# Altium schematic symbol library WCAP-AT1H.SchLib: 95 symbols (part 2 of 2)
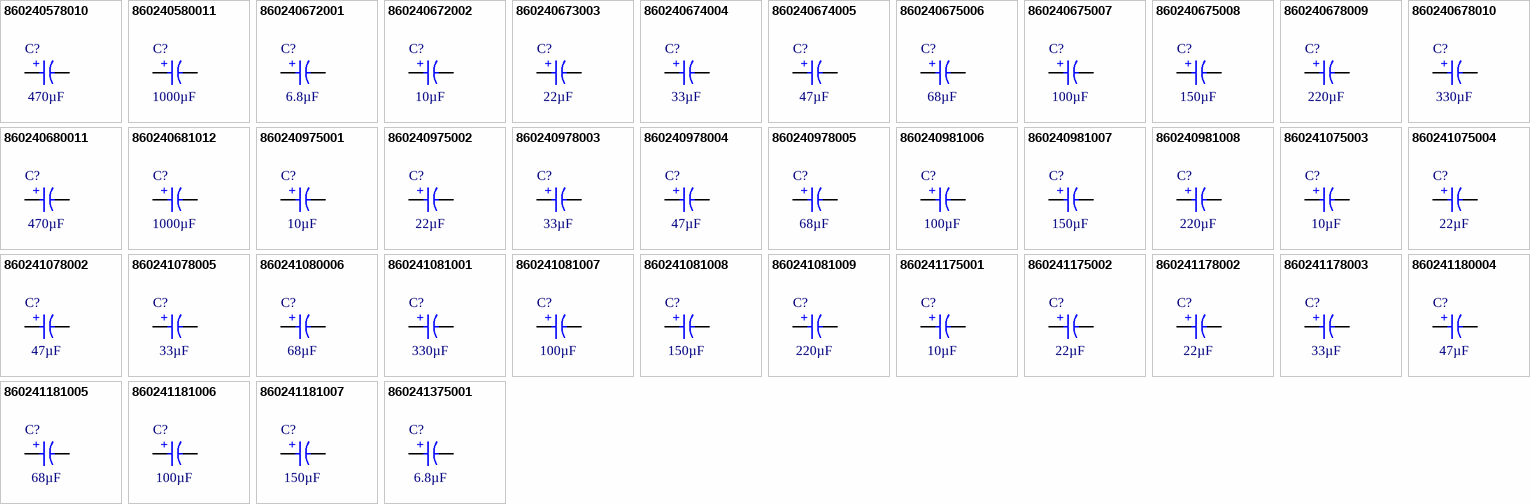
[diagram p3: symbols 860240578010 to 860241375001]

## 860240678010
designator C?, comment 330µF
WCAP-AT1H Aluminum Electrolytic Capacitor, Radial, D13 x H25mm, 330µF, 50V; Manufacturer Part Number: 860240678010; Manufacturer: Wurth Elektronik; Capacitance Tolerance: +/-20%; Dissipation Factor: 10%; Endurance: 10000h; Leakage Current: 165µA; Ripple Current: 1150mA; Technical Reference: ATDI250331M050DSPACK000; Category: Aluminum Electrolytic Capacitors; Match Code: WCAP-AT1H; ComponentLink1Description: Website Link; ComponentLink1URL: https://www.we-online.com/redexpert/article/860240678010?ad; ComponentLink2Description: Datasheet Link; ComponentLink2URL: https://www.we-online.com/redexpert/spec/860240678010?ad; Mount: Through Hole; Min Operating Temperature: -40°C; Max Operating Temperature: 105°C; Packaging: Ammo Pack; Case/Size Code: D13 x H25mm; Height: 25mm; Diameter: 13mm; Capacitance: 330µF; Rated Voltage (DC): 50V
footprint WCAP-AT1H_D13H25
simulation model 860240678010_330uF
pins: 1 P, 2 N
text: +

## 860240680011
designator C?, comment 470µF
WCAP-AT1H Aluminum Electrolytic Capacitor, Radial, D16 x H25mm, 470µF, 50V; Manufacturer Part Number: 860240680011; Manufacturer: Wurth Elektronik; Capacitance Tolerance: +/-20%; Dissipation Factor: 10%; Endurance: 10000h; Leakage Current: 235µA; Ripple Current: 1552mA; Technical Reference: ATDK250471M050DSPAEK000; Category: Aluminum Electrolytic Capacitors; Match Code: WCAP-AT1H; ComponentLink1Description: Website Link; ComponentLink1URL: https://www.we-online.com/redexpert/article/860240680011?ad; ComponentLink2Description: Datasheet Link; ComponentLink2URL: https://www.we-online.com/redexpert/spec/860240680011?ad; Mount: Through Hole; Min Operating Temperature: -40°C; Max Operating Temperature: 105°C; Packaging: Ammo Pack; Case/Size Code: D16 x H25mm; Height: 25mm; Diameter: 16mm; Capacitance: 470µF; Rated Voltage (DC): 50V
footprint WCAP-AT1H_D16H25
simulation model 860240680011_470uF
pins: 1 P, 2 N
text: +

## 860240681012
designator C?, comment 1000µF
WCAP-AT1H Aluminum Electrolytic Capacitor, Radial, D18 x H31.5mm, 1000µF, 50V; Manufacturer Part Number: 860240681012; Manufacturer: Wurth Elektronik; Capacitance Tolerance: +/-20%; Dissipation Factor: 10%; Endurance: 10000h; Leakage Current: 500µA; Ripple Current: 2093mA; Technical Reference: ATDL315102M050DSPAEK000; Category: Aluminum Electrolytic Capacitors; Match Code: WCAP-AT1H; ComponentLink1Description: Website Link; ComponentLink1URL: https://www.we-online.com/redexpert/article/860240681012?ad; ComponentLink2Description: Datasheet Link; ComponentLink2URL: https://www.we-online.com/redexpert/spec/860240681012?ad; Mount: Through Hole; Min Operating Temperature: -40°C; Max Operating Temperature: 105°C; Packaging: Ammo Pack; Case/Size Code: D18 x H31.5mm; Height: 31.5mm; Diameter: 18mm; Capacitance: 1000µF; Rated Voltage (DC): 50V
footprint WCAP-AT1H_D18H31.5
simulation model 860240681012_1mF
pins: 1 P, 2 N
text: +

## 860240975001
designator C?, comment 10µF
WCAP-AT1H Aluminum Electrolytic Capacitor, Radial, D10 x H16mm, 10µF, 160V; Manufacturer Part Number: 860240975001; Manufacturer: Wurth Elektronik; Capacitance Tolerance: +/-20%; Dissipation Factor: 15%; Endurance: 10000h; Leakage Current: 164µA; Ripple Current: 280mA; Technical Reference: ATDF160100M160DSPAAK000; Category: Aluminum Electrolytic Capacitors; Match Code: WCAP-AT1H; ComponentLink1Description: Website Link; ComponentLink1URL: https://www.we-online.com/redexpert/article/860240975001?ad; ComponentLink2Description: Datasheet Link; ComponentLink2URL: https://www.we-online.com/redexpert/spec/860240975001?ad; Mount: Through Hole; Min Operating Temperature: -40°C; Max Operating Temperature: 105°C; Packaging: Ammo Pack; Case/Size Code: D10 x H16mm; Height: 16mm; Diameter: 10mm; Capacitance: 10µF; Rated Voltage (DC): 160V
footprint WCAP-AT1H_D10H16
simulation model 860240975001_10uF
pins: 1 P, 2 N
text: +

## 860240975002
designator C?, comment 22µF
WCAP-AT1H Aluminum Electrolytic Capacitor, Radial, D10 x H20mm, 22µF, 160V; Manufacturer Part Number: 860240975002; Manufacturer: Wurth Elektronik; Capacitance Tolerance: +/-20%; Dissipation Factor: 15%; Endurance: 10000h; Leakage Current: 240.8µA; Ripple Current: 450mA; Technical Reference: ATDF200220M160DSPAAK000; Category: Aluminum Electrolytic Capacitors; Match Code: WCAP-AT1H; ComponentLink1Description: Website Link; ComponentLink1URL: https://www.we-online.com/redexpert/article/860240975002?ad; ComponentLink2Description: Datasheet Link; ComponentLink2URL: https://www.we-online.com/redexpert/spec/860240975002?ad; Mount: Through Hole; Min Operating Temperature: -40°C; Max Operating Temperature: 105°C; Packaging: Ammo Pack; Case/Size Code: D10 x H20mm; Height: 20mm; Diameter: 10mm; Capacitance: 22µF; Rated Voltage (DC): 160V
footprint WCAP-AT1H_D10H20
simulation model 860240975002_22uF
pins: 1 P, 2 N
text: +

## 860240978003
designator C?, comment 33µF
WCAP-AT1H Aluminum Electrolytic Capacitor, Radial, D13 x H20mm, 33µF, 160V; Manufacturer Part Number: 860240978003; Manufacturer: Wurth Elektronik; Capacitance Tolerance: +/-20%; Dissipation Factor: 15%; Endurance: 10000h; Leakage Current: 311.2µA; Ripple Current: 610mA; Technical Reference: ATDI200330M160DSPACK000; Category: Aluminum Electrolytic Capacitors; Match Code: WCAP-AT1H; ComponentLink1Description: Website Link; ComponentLink1URL: https://www.we-online.com/redexpert/article/860240978003?ad; ComponentLink2Description: Datasheet Link; ComponentLink2URL: https://www.we-online.com/redexpert/spec/860240978003?ad; Mount: Through Hole; Min Operating Temperature: -40°C; Max Operating Temperature: 105°C; Packaging: Ammo Pack; Case/Size Code: D13 x H20mm; Height: 20mm; Diameter: 13mm; Capacitance: 33µF; Rated Voltage (DC): 160V
footprint WCAP-AT1H_D13H20
simulation model 860240978003_33uF
pins: 1 P, 2 N
text: +

## 860240978004
designator C?, comment 47µF
WCAP-AT1H Aluminum Electrolytic Capacitor, Radial, D13 x H20mm, 47µF, 160V; Manufacturer Part Number: 860240978004; Manufacturer: Wurth Elektronik; Capacitance Tolerance: +/-20%; Dissipation Factor: 15%; Endurance: 10000h; Leakage Current: 400.8µA; Ripple Current: 680mA; Technical Reference: ATDI200470M160DSPACK000; Category: Aluminum Electrolytic Capacitors; Match Code: WCAP-AT1H; ComponentLink1Description: Website Link; ComponentLink1URL: https://www.we-online.com/redexpert/article/860240978004?ad; ComponentLink2Description: Datasheet Link; ComponentLink2URL: https://www.we-online.com/redexpert/spec/860240978004?ad; Mount: Through Hole; Min Operating Temperature: -40°C; Max Operating Temperature: 105°C; Packaging: Ammo Pack; Case/Size Code: D13 x H20mm; Height: 20mm; Diameter: 13mm; Capacitance: 47µF; Rated Voltage (DC): 160V
footprint WCAP-AT1H_D13H20
simulation model 860240978004_47uF
pins: 1 P, 2 N
text: +

## 860240978005
designator C?, comment 68µF
WCAP-AT1H Aluminum Electrolytic Capacitor, Radial, D13 x H25mm, 68µF, 160V; Manufacturer Part Number: 860240978005; Manufacturer: Wurth Elektronik; Capacitance Tolerance: +/-20%; Dissipation Factor: 15%; Endurance: 10000h; Leakage Current: 535.2µA; Ripple Current: 1100mA; Technical Reference: ATDI250680M160DSPACK000; Category: Aluminum Electrolytic Capacitors; Match Code: WCAP-AT1H; ComponentLink1Description: Website Link; ComponentLink1URL: https://www.we-online.com/redexpert/article/860240978005?ad; ComponentLink2Description: Datasheet Link; ComponentLink2URL: https://www.we-online.com/redexpert/spec/860240978005?ad; Mount: Through Hole; Min Operating Temperature: -40°C; Max Operating Temperature: 105°C; Packaging: Ammo Pack; Case/Size Code: D13 x H25mm; Height: 25mm; Diameter: 13mm; Capacitance: 68µF; Rated Voltage (DC): 160V
footprint WCAP-AT1H_D13H25
simulation model 860240978005_68uF
pins: 1 P, 2 N
text: +

## 860240981006
designator C?, comment 100µF
WCAP-AT1H Aluminum Electrolytic Capacitor, Radial, D18 x H21mm, 100µF, 160V; Manufacturer Part Number: 860240981006; Manufacturer: Wurth Elektronik; Capacitance Tolerance: +/-20%; Dissipation Factor: 15%; Endurance: 10000h; Leakage Current: 740µA; Ripple Current: 1310mA; Technical Reference: ATDL210101M160DSPAEK000; Category: Aluminum Electrolytic Capacitors; Match Code: WCAP-AT1H; ComponentLink1Description: Website Link; ComponentLink1URL: https://www.we-online.com/redexpert/article/860240981006?ad; ComponentLink2Description: Datasheet Link; ComponentLink2URL: https://www.we-online.com/redexpert/spec/860240981006?ad; Mount: Through Hole; Min Operating Temperature: -40°C; Max Operating Temperature: 105°C; Packaging: Ammo Pack; Case/Size Code: D18 x H21mm; Height: 21mm; Diameter: 18mm; Capacitance: 100µF; Rated Voltage (DC): 160V
footprint WCAP-AT1H_D18H21
simulation model 860240981006_100uF
pins: 1 P, 2 N
text: +

## 860240981007
designator C?, comment 150µF
WCAP-AT1H Aluminum Electrolytic Capacitor, Radial, D18 x H25mm, 150µF, 160V; Manufacturer Part Number: 860240981007; Manufacturer: Wurth Elektronik; Capacitance Tolerance: +/-20%; Dissipation Factor: 15%; Endurance: 10000h; Leakage Current: 1060µA; Ripple Current: 1780mA; Technical Reference: ATDL250151M160DSPAEK000; Category: Aluminum Electrolytic Capacitors; Match Code: WCAP-AT1H; ComponentLink1Description: Website Link; ComponentLink1URL: https://www.we-online.com/redexpert/article/860240981007?ad; ComponentLink2Description: Datasheet Link; ComponentLink2URL: https://www.we-online.com/redexpert/spec/860240981007?ad; Mount: Through Hole; Min Operating Temperature: -40°C; Max Operating Temperature: 105°C; Packaging: Ammo Pack; Case/Size Code: D18 x H25mm; Height: 25mm; Diameter: 18mm; Capacitance: 150µF; Rated Voltage (DC): 160V
footprint WCAP-AT1H_D18H25
simulation model 860240981007_150uF
pins: 1 P, 2 N
text: +

## 860240981008
designator C?, comment 220µF
WCAP-AT1H Aluminum Electrolytic Capacitor, Radial, D18 x H25mm, 220µF, 160V; Manufacturer Part Number: 860240981008; Manufacturer: Wurth Elektronik; Capacitance Tolerance: +/-20%; Dissipation Factor: 15%; Endurance: 10000h; Leakage Current: 1508µA; Ripple Current: 2290mA; Technical Reference: ATDL250221M160DSPAEK000; Category: Aluminum Electrolytic Capacitors; Match Code: WCAP-AT1H; ComponentLink1Description: Website Link; ComponentLink1URL: https://www.we-online.com/redexpert/article/860240981008?ad; ComponentLink2Description: Datasheet Link; ComponentLink2URL: https://www.we-online.com/redexpert/spec/860240981008?ad; Mount: Through Hole; Min Operating Temperature: -40°C; Max Operating Temperature: 105°C; Packaging: Ammo Pack; Case/Size Code: D18 x H25mm; Height: 25mm; Diameter: 18mm; Capacitance: 220µF; Rated Voltage (DC): 160V
footprint WCAP-AT1H_D18H25
simulation model 860240981008_220uF
pins: 1 P, 2 N
text: +

## 860241075003
designator C?, comment 10µF
WCAP-AT1H Aluminum Electrolytic Capacitor, Radial, D10 x H20mm, 10µF, 200V; Manufacturer Part Number: 860241075003; Manufacturer: Wurth Elektronik; Capacitance Tolerance: +/-20%; Dissipation Factor: 15%; Endurance: 10000h; Leakage Current: 180µA; Ripple Current: 310mA; Technical Reference: ATDF200100M200DSPAAK000; Category: Aluminum Electrolytic Capacitors; Match Code: WCAP-AT1H; ComponentLink1Description: Website Link; ComponentLink1URL: https://www.we-online.com/redexpert/article/860241075003?ad; ComponentLink2Description: Datasheet Link; ComponentLink2URL: https://www.we-online.com/redexpert/spec/860241075003?ad; Mount: Through Hole; Min Operating Temperature: -40°C; Max Operating Temperature: 105°C; Packaging: Ammo Pack; Case/Size Code: D10 x H20mm; Height: 20mm; Diameter: 10mm; Capacitance: 10µF; Rated Voltage (DC): 200V
footprint WCAP-AT1H_D10H20
simulation model 860241075003_10uF
pins: 1 P, 2 N
text: +

## 860241075004
designator C?, comment 22µF
WCAP-AT1H Aluminum Electrolytic Capacitor, Radial, D10 x H20mm, 22µF, 200V; Manufacturer Part Number: 860241075004; Manufacturer: Wurth Elektronik; Capacitance Tolerance: +/-20%; Dissipation Factor: 15%; Endurance: 10000h; Leakage Current: 276µA; Ripple Current: 470mA; Technical Reference: ATDF200220M200DSPAAK000; Category: Aluminum Electrolytic Capacitors; Match Code: WCAP-AT1H; ComponentLink1Description: Website Link; ComponentLink1URL: https://www.we-online.com/redexpert/article/860241075004?ad; ComponentLink2Description: Datasheet Link; ComponentLink2URL: https://www.we-online.com/redexpert/spec/860241075004?ad; Mount: Through Hole; Min Operating Temperature: -40°C; Max Operating Temperature: 105°C; Packaging: Ammo Pack; Case/Size Code: D10 x H20mm; Height: 20mm; Diameter: 10mm; Capacitance: 22µF; Rated Voltage (DC): 200V
footprint WCAP-AT1H_D10H20
simulation model 860241075004_22uF
pins: 1 P, 2 N
text: +

## 860241078002
designator C?, comment 47µF
WCAP-AT1H Aluminum Electrolytic Capacitor, Radial, D13 x H20mm, 47µF, 200V; Manufacturer Part Number: 860241078002; Manufacturer: Wurth Elektronik; Capacitance Tolerance: +/-20%; Dissipation Factor: 15%; Endurance: 10000h; Leakage Current: 476µA; Ripple Current: 980mA; Technical Reference: ATDI200470M200DSPACK000; Category: Aluminum Electrolytic Capacitors; Match Code: WCAP-AT1H; ComponentLink1Description: Website Link; ComponentLink1URL: https://www.we-online.com/redexpert/article/860241078002?ad; ComponentLink2Description: Datasheet Link; ComponentLink2URL: https://www.we-online.com/redexpert/spec/860241078002?ad; Mount: Through Hole; Min Operating Temperature: -40°C; Max Operating Temperature: 105°C; Packaging: Ammo Pack; Case/Size Code: D13 x H20mm; Height: 20mm; Diameter: 13mm; Capacitance: 47µF; Rated Voltage (DC): 200V
footprint WCAP-AT1H_D13H20
simulation model 860241078002_47uF
pins: 1 P, 2 N
text: +

## 860241078005
designator C?, comment 33µF
WCAP-AT1H Aluminum Electrolytic Capacitor, Radial, D13 x H20mm, 33µF, 200V; Manufacturer Part Number: 860241078005; Manufacturer: Wurth Elektronik; Capacitance Tolerance: +/-20%; Dissipation Factor: 15%; Endurance: 10000h; Leakage Current: 364µA; Ripple Current: 620mA; Technical Reference: ATDI200330M200DSPACK000; Category: Aluminum Electrolytic Capacitors; Match Code: WCAP-AT1H; ComponentLink1Description: Website Link; ComponentLink1URL: https://www.we-online.com/redexpert/article/860241078005?ad; ComponentLink2Description: Datasheet Link; ComponentLink2URL: https://www.we-online.com/redexpert/spec/860241078005?ad; Mount: Through Hole; Min Operating Temperature: -40°C; Max Operating Temperature: 105°C; Packaging: Ammo Pack; Case/Size Code: D13 x H20mm; Height: 20mm; Diameter: 13mm; Capacitance: 33µF; Rated Voltage (DC): 200V
footprint WCAP-AT1H_D13H20
simulation model 860241078005_33uF
pins: 1 P, 2 N
text: +

## 860241080006
designator C?, comment 68µF
WCAP-AT1H Aluminum Electrolytic Capacitor, Radial, D16 x H25mm, 68µF, 200V; Manufacturer Part Number: 860241080006; Manufacturer: Wurth Elektronik; Capacitance Tolerance: +/-20%; Dissipation Factor: 15%; Endurance: 10000h; Leakage Current: 644µA; Ripple Current: 1190mA; Technical Reference: ATDK250680M200DSPAEK000; Category: Aluminum Electrolytic Capacitors; Match Code: WCAP-AT1H; ComponentLink1Description: Website Link; ComponentLink1URL: https://www.we-online.com/redexpert/article/860241080006?ad; ComponentLink2Description: Datasheet Link; ComponentLink2URL: https://www.we-online.com/redexpert/spec/860241080006?ad; Mount: Through Hole; Min Operating Temperature: -40°C; Max Operating Temperature: 105°C; Packaging: Ammo Pack; Case/Size Code: D16 x H25mm; Height: 25mm; Diameter: 16mm; Capacitance: 68µF; Rated Voltage (DC): 200V
footprint WCAP-AT1H_D16H25
simulation model 860241080006_68uF
pins: 1 P, 2 N
text: +

## 860241081001
designator C?, comment 330µF
WCAP-AT1H Aluminum Electrolytic Capacitor, Radial, D18 x H35.5mm, 330µF, 200V; Manufacturer Part Number: 860241081001; Manufacturer: Wurth Elektronik; Capacitance Tolerance: +/-20%; Dissipation Factor: 15%; Endurance: 10000h; Leakage Current: 2740µA; Ripple Current: 3220mA; Technical Reference: ATDL355331M200DSPAEK000; Category: Aluminum Electrolytic Capacitors; Match Code: WCAP-AT1H; ComponentLink1Description: Website Link; ComponentLink1URL: https://www.we-online.com/redexpert/article/860241081001?ad; ComponentLink2Description: Datasheet Link; ComponentLink2URL: https://www.we-online.com/redexpert/spec/860241081001?ad; Mount: Through Hole; Min Operating Temperature: -40°C; Max Operating Temperature: 105°C; Packaging: Ammo Pack; Case/Size Code: D18 x H35.5mm; Height: 35.5mm; Diameter: 18mm; Capacitance: 330µF; Rated Voltage (DC): 200V
footprint WCAP-AT1H_D18H35.5
simulation model 860241081001_330uF
pins: 1 P, 2 N
text: +

## 860241081007
designator C?, comment 100µF
WCAP-AT1H Aluminum Electrolytic Capacitor, Radial, D18 x H21mm, 100µF, 200V; Manufacturer Part Number: 860241081007; Manufacturer: Wurth Elektronik; Capacitance Tolerance: +/-20%; Dissipation Factor: 15%; Endurance: 10000h; Leakage Current: 900µA; Ripple Current: 1380mA; Technical Reference: ATDL210101M200DSPAEK000; Category: Aluminum Electrolytic Capacitors; Match Code: WCAP-AT1H; ComponentLink1Description: Website Link; ComponentLink1URL: https://www.we-online.com/redexpert/article/860241081007?ad; ComponentLink2Description: Datasheet Link; ComponentLink2URL: https://www.we-online.com/redexpert/spec/860241081007?ad; Mount: Through Hole; Min Operating Temperature: -40°C; Max Operating Temperature: 105°C; Packaging: Ammo Pack; Case/Size Code: D18 x H21mm; Height: 21mm; Diameter: 18mm; Capacitance: 100µF; Rated Voltage (DC): 200V
footprint WCAP-AT1H_D18H21
simulation model 860241081007_100uF
pins: 1 P, 2 N
text: +

## 860241081008
designator C?, comment 150µF
WCAP-AT1H Aluminum Electrolytic Capacitor, Radial, D18 x H25mm, 150µF, 200V; Manufacturer Part Number: 860241081008; Manufacturer: Wurth Elektronik; Capacitance Tolerance: +/-20%; Dissipation Factor: 15%; Endurance: 10000h; Leakage Current: 1300µA; Ripple Current: 1800mA; Technical Reference: ATDL250151M200DSPAEK000; Category: Aluminum Electrolytic Capacitors; Match Code: WCAP-AT1H; ComponentLink1Description: Website Link; ComponentLink1URL: https://www.we-online.com/redexpert/article/860241081008?ad; ComponentLink2Description: Datasheet Link; ComponentLink2URL: https://www.we-online.com/redexpert/spec/860241081008?ad; Mount: Through Hole; Min Operating Temperature: -40°C; Max Operating Temperature: 105°C; Packaging: Ammo Pack; Case/Size Code: D18 x H25mm; Height: 25mm; Diameter: 18mm; Capacitance: 150µF; Rated Voltage (DC): 200V
footprint WCAP-AT1H_D18H25
simulation model 860241081008_150uF
pins: 1 P, 2 N
text: +

## 860241081009
designator C?, comment 220µF
WCAP-AT1H Aluminum Electrolytic Capacitor, Radial, D18 x H31.5mm, 220µF, 200V; Manufacturer Part Number: 860241081009; Manufacturer: Wurth Elektronik; Capacitance Tolerance: +/-20%; Dissipation Factor: 15%; Endurance: 10000h; Leakage Current: 1860µA; Ripple Current: 2350mA; Technical Reference: ATDL315221M200DSPAEK000; Category: Aluminum Electrolytic Capacitors; Match Code: WCAP-AT1H; ComponentLink1Description: Website Link; ComponentLink1URL: https://www.we-online.com/redexpert/article/860241081009?ad; ComponentLink2Description: Datasheet Link; ComponentLink2URL: https://www.we-online.com/redexpert/spec/860241081009?ad; Mount: Through Hole; Min Operating Temperature: -40°C; Max Operating Temperature: 105°C; Packaging: Ammo Pack; Case/Size Code: D18 x H31.5mm; Height: 31.5mm; Diameter: 18mm; Capacitance: 220µF; Rated Voltage (DC): 200V
footprint WCAP-AT1H_D18H31.5
simulation model 860241081009_220uF
pins: 1 P, 2 N
text: +

## 860241175001
designator C?, comment 10µF
WCAP-AT1H Aluminum Electrolytic Capacitor, Radial, D10 x H20mm, 10µF, 250V; Manufacturer Part Number: 860241175001; Manufacturer: Wurth Elektronik; Capacitance Tolerance: +/-20%; Dissipation Factor: 15%; Endurance: 10000h; Leakage Current: 200µA; Ripple Current: 320mA; Technical Reference: ATDF200100M250DSPAAK000; Category: Aluminum Electrolytic Capacitors; Match Code: WCAP-AT1H; ComponentLink1Description: Website Link; ComponentLink1URL: https://www.we-online.com/redexpert/article/860241175001?ad; ComponentLink2Description: Datasheet Link; ComponentLink2URL: https://www.we-online.com/redexpert/spec/860241175001?ad; Mount: Through Hole; Min Operating Temperature: -40°C; Max Operating Temperature: 105°C; Packaging: Ammo Pack; Case/Size Code: D10 x H20mm; Height: 20mm; Diameter: 10mm; Capacitance: 10µF; Rated Voltage (DC): 250V
footprint WCAP-AT1H_D10H20
simulation model 860241175001_10uF
pins: 1 P, 2 N
text: +

## 860241175002
designator C?, comment 22µF
WCAP-AT1H Aluminum Electrolytic Capacitor, Radial, D10 x H20mm, 22µF, 250V; Manufacturer Part Number: 860241175002; Manufacturer: Wurth Elektronik; Capacitance Tolerance: +/-20%; Dissipation Factor: 15%; Endurance: 10000h; Leakage Current: 320µA; Ripple Current: 420mA; Technical Reference: ATDF200220M250DSPAAK000; Category: Aluminum Electrolytic Capacitors; Match Code: WCAP-AT1H; ComponentLink1Description: Website Link; ComponentLink1URL: https://www.we-online.com/redexpert/article/860241175002?ad; ComponentLink2Description: Datasheet Link; ComponentLink2URL: https://www.we-online.com/redexpert/spec/860241175002?ad; Mount: Through Hole; Min Operating Temperature: -40°C; Max Operating Temperature: 105°C; Packaging: Ammo Pack; Case/Size Code: D10 x H20mm; Height: 20mm; Diameter: 10mm; Capacitance: 22µF; Rated Voltage (DC): 250V
footprint WCAP-AT1H_D10H20
simulation model 860241175002_22uF
pins: 1 P, 2 N
text: +

## 860241178002
designator C?, comment 22µF
WCAP-AT1H Aluminum Electrolytic Capacitor, Radial, D13 x H20mm, 22µF, 250V; Manufacturer Part Number: 860241178002; Manufacturer: Wurth Elektronik; Capacitance Tolerance: +/-20%; Dissipation Factor: 15%; Endurance: 10000h; Leakage Current: 320µA; Ripple Current: 490mA; Technical Reference: ATDI200220M250DSPACK000; Category: Aluminum Electrolytic Capacitors; Match Code: WCAP-AT1H; ComponentLink1Description: Website Link; ComponentLink1URL: https://www.we-online.com/redexpert/article/860241178002?ad; ComponentLink2Description: Datasheet Link; ComponentLink2URL: https://www.we-online.com/redexpert/spec/860241178002?ad; Mount: Through Hole; Min Operating Temperature: -40°C; Max Operating Temperature: 105°C; Packaging: Ammo Pack; Case/Size Code: D13 x H20mm; Height: 20mm; Diameter: 13mm; Capacitance: 22µF; Rated Voltage (DC): 250V
footprint WCAP-AT1H_D13H20
simulation model 860241178002_22uF
pins: 1 P, 2 N
text: +

## 860241178003
designator C?, comment 33µF
WCAP-AT1H Aluminum Electrolytic Capacitor, Radial, D13 x H25mm, 33µF, 250V; Manufacturer Part Number: 860241178003; Manufacturer: Wurth Elektronik; Capacitance Tolerance: +/-20%; Dissipation Factor: 15%; Endurance: 10000h; Leakage Current: 430µA; Ripple Current: 750mA; Technical Reference: ATDI250330M250DSPACK000; Category: Aluminum Electrolytic Capacitors; Match Code: WCAP-AT1H; ComponentLink1Description: Website Link; ComponentLink1URL: https://www.we-online.com/redexpert/article/860241178003?ad; ComponentLink2Description: Datasheet Link; ComponentLink2URL: https://www.we-online.com/redexpert/spec/860241178003?ad; Mount: Through Hole; Min Operating Temperature: -40°C; Max Operating Temperature: 105°C; Packaging: Ammo Pack; Case/Size Code: D13 x H25mm; Height: 25mm; Diameter: 13mm; Capacitance: 33µF; Rated Voltage (DC): 250V
footprint WCAP-AT1H_D13H25
simulation model 860241178003_33uF
pins: 1 P, 2 N
text: +

## 860241180004
designator C?, comment 47µF
WCAP-AT1H Aluminum Electrolytic Capacitor, Radial, D16 x H21mm, 47µF, 250V; Manufacturer Part Number: 860241180004; Manufacturer: Wurth Elektronik; Capacitance Tolerance: +/-20%; Dissipation Factor: 15%; Endurance: 10000h; Leakage Current: 570µA; Ripple Current: 930mA; Technical Reference: ATDK210470M250DSPAEK000; Category: Aluminum Electrolytic Capacitors; Match Code: WCAP-AT1H; ComponentLink1Description: Website Link; ComponentLink1URL: https://www.we-online.com/redexpert/article/860241180004?ad; ComponentLink2Description: Datasheet Link; ComponentLink2URL: https://www.we-online.com/redexpert/spec/860241180004?ad; Mount: Through Hole; Min Operating Temperature: -40°C; Max Operating Temperature: 105°C; Packaging: Ammo Pack; Case/Size Code: D16 x H21mm; Height: 21mm; Diameter: 16mm; Capacitance: 47µF; Rated Voltage (DC): 250V
footprint WCAP-AT1H_D16H21
simulation model 860241180004_47uF
pins: 1 P, 2 N
text: +

## 860241181005
designator C?, comment 68µF
WCAP-AT1H Aluminum Electrolytic Capacitor, Radial, D18 x H21mm, 68µF, 250V; Manufacturer Part Number: 860241181005; Manufacturer: Wurth Elektronik; Capacitance Tolerance: +/-20%; Dissipation Factor: 15%; Endurance: 10000h; Leakage Current: 780µA; Ripple Current: 1300mA; Technical Reference: ATDL210680M250DSPAEK000; Category: Aluminum Electrolytic Capacitors; Match Code: WCAP-AT1H; ComponentLink1Description: Website Link; ComponentLink1URL: https://www.we-online.com/redexpert/article/860241181005?ad; ComponentLink2Description: Datasheet Link; ComponentLink2URL: https://www.we-online.com/redexpert/spec/860241181005?ad; Mount: Through Hole; Min Operating Temperature: -40°C; Max Operating Temperature: 105°C; Packaging: Ammo Pack; Case/Size Code: D18 x H21mm; Height: 21mm; Diameter: 18mm; Capacitance: 68µF; Rated Voltage (DC): 250V
footprint WCAP-AT1H_D18H21
simulation model 860241181005_68uF
pins: 1 P, 2 N
text: +

## 860241181006
designator C?, comment 100µF
WCAP-AT1H Aluminum Electrolytic Capacitor, Radial, D18 x H25mm, 100µF, 250V; Manufacturer Part Number: 860241181006; Manufacturer: Wurth Elektronik; Capacitance Tolerance: +/-20%; Dissipation Factor: 15%; Endurance: 10000h; Leakage Current: 1100µA; Ripple Current: 1500mA; Technical Reference: ATDL250101M250DSPAEK000; Category: Aluminum Electrolytic Capacitors; Match Code: WCAP-AT1H; ComponentLink1Description: Website Link; ComponentLink1URL: https://www.we-online.com/redexpert/article/860241181006?ad; ComponentLink2Description: Datasheet Link; ComponentLink2URL: https://www.we-online.com/redexpert/spec/860241181006?ad; Mount: Through Hole; Min Operating Temperature: -40°C; Max Operating Temperature: 105°C; Packaging: Ammo Pack; Case/Size Code: D18 x H25mm; Height: 25mm; Diameter: 18mm; Capacitance: 100µF; Rated Voltage (DC): 250V
footprint WCAP-AT1H_D18H25
simulation model 860241181006_100uF
pins: 1 P, 2 N
text: +

## 860241181007
designator C?, comment 150µF
WCAP-AT1H Aluminum Electrolytic Capacitor, Radial, D18 x H31.5mm, 150µF, 250V; Manufacturer Part Number: 860241181007; Manufacturer: Wurth Elektronik; Capacitance Tolerance: +/-20%; Dissipation Factor: 15%; Endurance: 10000h; Leakage Current: 1600µA; Ripple Current: 1870mA; Technical Reference: ATDL315151M250DSPAEK000; Category: Aluminum Electrolytic Capacitors; Match Code: WCAP-AT1H; ComponentLink1Description: Website Link; ComponentLink1URL: https://www.we-online.com/redexpert/article/860241181007?ad; ComponentLink2Description: Datasheet Link; ComponentLink2URL: https://www.we-online.com/redexpert/spec/860241181007?ad; Mount: Through Hole; Min Operating Temperature: -40°C; Max Operating Temperature: 105°C; Packaging: Ammo Pack; Case/Size Code: D18 x H31.5mm; Height: 31.5mm; Diameter: 18mm; Capacitance: 150µF; Rated Voltage (DC): 250V
footprint WCAP-AT1H_D18H31.5
simulation model 860241181007_150uF
pins: 1 P, 2 N
text: +

## 860241375001
designator C?, comment 6.8µF
WCAP-AT1H Aluminum Electrolytic Capacitor, Radial, D10 x H12.5mm, 6.8µF, 400V; Manufacturer Part Number: 860241375001; Manufacturer: Wurth Elektronik; Capacitance Tolerance: +/-20%; Dissipation Factor: 20%; Endurance: 10000h; Leakage Current: 208.8µA; Ripple Current: 220mA; Technical Reference: ATDF1256R8M400DSPA9K000; Category: Aluminum Electrolytic Capacitors; Match Code: WCAP-AT1H; ComponentLink1Description: Website Link; ComponentLink1URL: https://www.we-online.com/redexpert/article/860241375001?ad; ComponentLink2Description: Datasheet Link; ComponentLink2URL: https://www.we-online.com/redexpert/spec/860241375001?ad; Mount: Through Hole; Min Operating Temperature: -40°C; Max Operating Temperature: 105°C; Packaging: Ammo Pack; Case/Size Code: D10 x H12.5mm; Height: 12.5mm; Diameter: 10mm; Capacitance: 6.8µF; Rated Voltage (DC): 400V
footprint WCAP-AT1H_D10H12.5
simulation model 860241375001_6.8uF
pins: 1 P, 2 N
text: +

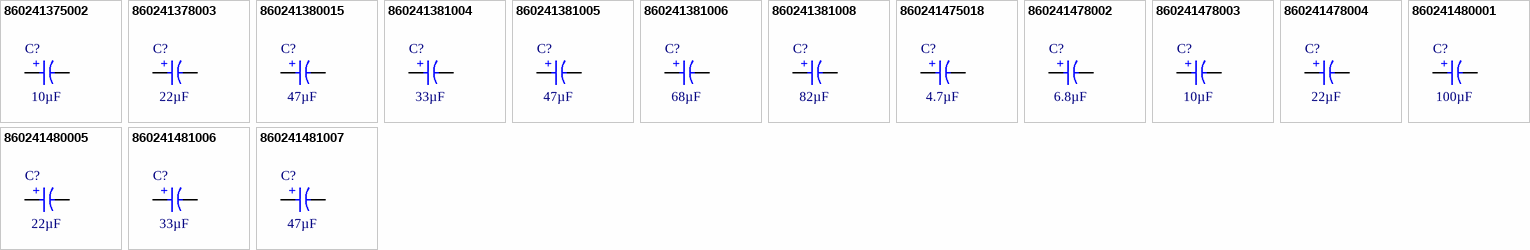
[diagram p2: symbols 860241375002 to 860241481007]

## 860241375002
designator C?, comment 10µF
WCAP-AT1H Aluminum Electrolytic Capacitor, Radial, D10 x H16mm, 10µF, 400V; Manufacturer Part Number: 860241375002; Manufacturer: Wurth Elektronik; Capacitance Tolerance: +/-20%; Dissipation Factor: 20%; Endurance: 10000h; Leakage Current: 260µA; Ripple Current: 274mA; Technical Reference: ATDF160100M400DSPAAK000; Category: Aluminum Electrolytic Capacitors; Match Code: WCAP-AT1H; ComponentLink1Description: Website Link; ComponentLink1URL: https://www.we-online.com/redexpert/article/860241375002?ad; ComponentLink2Description: Datasheet Link; ComponentLink2URL: https://www.we-online.com/redexpert/spec/860241375002?ad; Mount: Through Hole; Min Operating Temperature: -40°C; Max Operating Temperature: 105°C; Packaging: Ammo Pack; Case/Size Code: D10 x H16mm; Height: 16mm; Diameter: 10mm; Capacitance: 10µF; Rated Voltage (DC): 400V
footprint WCAP-AT1H_D10H16
simulation model 860241375002_10uF
pins: 1 P, 2 N
text: +

## 860241378003
designator C?, comment 22µF
WCAP-AT1H Aluminum Electrolytic Capacitor, Radial, D13 x H20mm, 22µF, 400V; Manufacturer Part Number: 860241378003; Manufacturer: Wurth Elektronik; Capacitance Tolerance: +/-20%; Dissipation Factor: 20%; Endurance: 10000h; Leakage Current: 452µA; Ripple Current: 557mA; Technical Reference: ATDI200220M400DSPACK000; Category: Aluminum Electrolytic Capacitors; Match Code: WCAP-AT1H; ComponentLink1Description: Website Link; ComponentLink1URL: https://www.we-online.com/redexpert/article/860241378003?ad; ComponentLink2Description: Datasheet Link; ComponentLink2URL: https://www.we-online.com/redexpert/spec/860241378003?ad; Mount: Through Hole; Min Operating Temperature: -40°C; Max Operating Temperature: 105°C; Packaging: Ammo Pack; Case/Size Code: D13 x H20mm; Height: 20mm; Diameter: 13mm; Capacitance: 22µF; Rated Voltage (DC): 400V
footprint WCAP-AT1H_D13H20
simulation model 860241378003_22uF
pins: 1 P, 2 N
text: +

## 860241380015
designator C?, comment 47µF
WCAP-AT1H Aluminum Electrolytic Capacitor, Radial, D16 x H25mm, 47µF, 400V; Manufacturer Part Number: 860241380015; Manufacturer: Wurth Elektronik; Capacitance Tolerance: +/-20%; Dissipation Factor: 20%; Endurance: 10000h; Leakage Current: 852µA; Ripple Current: 1200mA; Technical Reference: ATDK250470M400DSPAEK0B0; Category: Aluminum Electrolytic Capacitors; Match Code: WCAP-AT1H; ComponentLink1Description: Website Link; ComponentLink1URL: https://www.we-online.com/redexpert/article/860241380015?ad; ComponentLink2Description: Datasheet Link; ComponentLink2URL: https://www.we-online.com/redexpert/spec/860241380015?ad; Mount: Through Hole; Min Operating Temperature: -40°C; Max Operating Temperature: 105°C; Packaging: Ammo Pack; Case/Size Code: D16 x H25mm; Height: 25mm; Diameter: 16mm; Capacitance: 47µF; Rated Voltage (DC): 400V
footprint WCAP-AT1H_D16H25
simulation model 860241380015_47uF
pins: 1 P, 2 N
text: +

## 860241381004
designator C?, comment 33µF
WCAP-AT1H Aluminum Electrolytic Capacitor, Radial, D18 x H21mm, 33µF, 400V; Manufacturer Part Number: 860241381004; Manufacturer: Wurth Elektronik; Capacitance Tolerance: +/-20%; Dissipation Factor: 20%; Endurance: 10000h; Leakage Current: 628µA; Ripple Current: 870mA; Technical Reference: ATDL210330M400DSPAEK000; Category: Aluminum Electrolytic Capacitors; Match Code: WCAP-AT1H; ComponentLink1Description: Website Link; ComponentLink1URL: https://www.we-online.com/redexpert/article/860241381004?ad; ComponentLink2Description: Datasheet Link; ComponentLink2URL: https://www.we-online.com/redexpert/spec/860241381004?ad; Mount: Through Hole; Min Operating Temperature: -40°C; Max Operating Temperature: 105°C; Packaging: Ammo Pack; Case/Size Code: D18 x H21mm; Height: 21mm; Diameter: 18mm; Capacitance: 33µF; Rated Voltage (DC): 400V
footprint WCAP-AT1H_D18H21
simulation model 860241381004_33uF
pins: 1 P, 2 N
text: +

## 860241381005
designator C?, comment 47µF
WCAP-AT1H Aluminum Electrolytic Capacitor, Radial, D18 x H21mm, 47µF, 400V; Manufacturer Part Number: 860241381005; Manufacturer: Wurth Elektronik; Capacitance Tolerance: +/-20%; Dissipation Factor: 20%; Endurance: 10000h; Leakage Current: 852µA; Ripple Current: 1050mA; Technical Reference: ATDL210470M400DSPAEK000; Category: Aluminum Electrolytic Capacitors; Match Code: WCAP-AT1H; ComponentLink1Description: Website Link; ComponentLink1URL: https://www.we-online.com/redexpert/article/860241381005?ad; ComponentLink2Description: Datasheet Link; ComponentLink2URL: https://www.we-online.com/redexpert/spec/860241381005?ad; Mount: Through Hole; Min Operating Temperature: -40°C; Max Operating Temperature: 105°C; Packaging: Ammo Pack; Case/Size Code: D18 x H21mm; Height: 21mm; Diameter: 18mm; Capacitance: 47µF; Rated Voltage (DC): 400V
footprint WCAP-AT1H_D18H21
simulation model 860241381005_47uF
pins: 1 P, 2 N
text: +

## 860241381006
designator C?, comment 68µF
WCAP-AT1H Aluminum Electrolytic Capacitor, Radial, D18 x H31.5mm, 68µF, 400V; Manufacturer Part Number: 860241381006; Manufacturer: Wurth Elektronik; Capacitance Tolerance: +/-20%; Dissipation Factor: 20%; Endurance: 10000h; Leakage Current: 1188µA; Ripple Current: 1460mA; Technical Reference: ATDL315680M400DSPAEK000; Category: Aluminum Electrolytic Capacitors; Match Code: WCAP-AT1H; ComponentLink1Description: Website Link; ComponentLink1URL: https://www.we-online.com/redexpert/article/860241381006?ad; ComponentLink2Description: Datasheet Link; ComponentLink2URL: https://www.we-online.com/redexpert/spec/860241381006?ad; Mount: Through Hole; Min Operating Temperature: -40°C; Max Operating Temperature: 105°C; Packaging: Ammo Pack; Case/Size Code: D18 x H31.5mm; Height: 31.5mm; Diameter: 18mm; Capacitance: 68µF; Rated Voltage (DC): 400V
footprint WCAP-AT1H_D18H31.5
simulation model 860241381006_68uF
pins: 1 P, 2 N
text: +

## 860241381008
designator C?, comment 82µF
WCAP-AT1H Aluminum Electrolytic Capacitor, Radial, D18 x H25mm, 82µF, 400V; Manufacturer Part Number: 860241381008; Manufacturer: Wurth Elektronik; Capacitance Tolerance: +/-20%; Dissipation Factor: 20%; Endurance: 10000h; Leakage Current: 1412µA; Ripple Current: 1530mA; Technical Reference: ATDL250820M400DSPAEK0R1; Category: Aluminum Electrolytic Capacitors; Match Code: WCAP-AT1H; ComponentLink1Description: Website Link; ComponentLink1URL: https://www.we-online.com/redexpert/article/860241381008?ad; ComponentLink2Description: Datasheet Link; ComponentLink2URL: https://www.we-online.com/redexpert/spec/860241381008?ad; Mount: Through Hole; Min Operating Temperature: -40°C; Max Operating Temperature: 105°C; Packaging: Ammo Pack; Case/Size Code: D18 x H25mm; Height: 25mm; Diameter: 18mm; Capacitance: 82µF; Rated Voltage (DC): 400V
footprint WCAP-AT1H_D18H25
simulation model 860241381008_82uF
pins: 1 P, 2 N
text: +

## 860241475018
designator C?, comment 4.7µF
WCAP-AT1H Aluminum Electrolytic Capacitor, Radial, D10 x H16mm, 4.7µF, 450V; Manufacturer Part Number: 860241475018; Manufacturer: Wurth Elektronik; Capacitance Tolerance: +/-20%; Dissipation Factor: 20%; Endurance: 8000h; Leakage Current: 185µA; Ripple Current: 110mA; Technical Reference: ATDF1604R7M450DSPAAH000; Category: Aluminum Electrolytic Capacitors; Match Code: WCAP-AT1H; ComponentLink1Description: Website Link; ComponentLink1URL: https://www.we-online.com/redexpert/article/860241475018?ad; ComponentLink2Description: Datasheet Link; ComponentLink2URL: https://www.we-online.com/redexpert/spec/860241475018?ad; Mount: Through Hole; Min Operating Temperature: -40°C; Max Operating Temperature: 105°C; Packaging: Ammo Pack; Case/Size Code: D10 x H16mm; Height: 16mm; Diameter: 10mm; Capacitance: 4.7µF; Rated Voltage (DC): 450V
footprint WCAP-AT1H_D10H16
pins: 1 P, 2 N
text: +

## 860241478002
designator C?, comment 6.8µF
WCAP-AT1H Aluminum Electrolytic Capacitor, Radial, D13 x H20mm, 6.8µF, 450V; Manufacturer Part Number: 860241478002; Manufacturer: Wurth Elektronik; Capacitance Tolerance: +/-20%; Dissipation Factor: 20%; Endurance: 10000h; Leakage Current: 222.4µA; Ripple Current: 240mA; Technical Reference: ATJI2006R8M450DSPACK000; Category: Aluminum Electrolytic Capacitors; Match Code: WCAP-AT1H; ComponentLink1Description: Website Link; ComponentLink1URL: https://www.we-online.com/redexpert/article/860241478002?ad; ComponentLink2Description: Datasheet Link; ComponentLink2URL: https://www.we-online.com/redexpert/spec/860241478002?ad; Mount: Through Hole; Min Operating Temperature: -25°C; Max Operating Temperature: 105°C; Packaging: Ammo Pack; Case/Size Code: D13 x H20mm; Height: 20mm; Diameter: 13mm; Capacitance: 6.8µF; Rated Voltage (DC): 450V
footprint WCAP-AT1H_D13H20
simulation model 860241478002_6.8uF
pins: 1 P, 2 N
text: +

## 860241478003
designator C?, comment 10µF
WCAP-AT1H Aluminum Electrolytic Capacitor, Radial, D13 x H20mm, 10µF, 450V; Manufacturer Part Number: 860241478003; Manufacturer: Wurth Elektronik; Capacitance Tolerance: +/-20%; Dissipation Factor: 20%; Endurance: 10000h; Leakage Current: 280µA; Ripple Current: 390mA; Technical Reference: ATJI200100M450DSPACK000; Category: Aluminum Electrolytic Capacitors; Match Code: WCAP-AT1H; ComponentLink1Description: Website Link; ComponentLink1URL: https://www.we-online.com/redexpert/article/860241478003?ad; ComponentLink2Description: Datasheet Link; ComponentLink2URL: https://www.we-online.com/redexpert/spec/860241478003?ad; Mount: Through Hole; Min Operating Temperature: -25°C; Max Operating Temperature: 105°C; Packaging: Ammo Pack; Case/Size Code: D13 x H20mm; Height: 20mm; Diameter: 13mm; Capacitance: 10µF; Rated Voltage (DC): 450V
footprint WCAP-AT1H_D13H20
simulation model 860241478003_10uF
pins: 1 P, 2 N
text: +

## 860241478004
designator C?, comment 22µF
WCAP-AT1H Aluminum Electrolytic Capacitor, Radial, D13 x H25mm, 22µF, 450V; Manufacturer Part Number: 860241478004; Manufacturer: Wurth Elektronik; Capacitance Tolerance: +/-20%; Dissipation Factor: 20%; Endurance: 10000h; Leakage Current: 496µA; Ripple Current: 632mA; Technical Reference: ATJI250220M450DSPACK000; Category: Aluminum Electrolytic Capacitors; Match Code: WCAP-AT1H; ComponentLink1Description: Website Link; ComponentLink1URL: https://www.we-online.com/redexpert/article/860241478004?ad; ComponentLink2Description: Datasheet Link; ComponentLink2URL: https://www.we-online.com/redexpert/spec/860241478004?ad; Mount: Through Hole; Min Operating Temperature: -25°C; Max Operating Temperature: 105°C; Packaging: Ammo Pack; Case/Size Code: D13 x H25mm; Height: 25mm; Diameter: 13mm; Capacitance: 22µF; Rated Voltage (DC): 450V
footprint WCAP-AT1H_D13H25
simulation model 860241478004_22uF
pins: 1 P, 2 N
text: +

## 860241480001
designator C?, comment 100µF
WCAP-AT1H Aluminum Electrolytic Capacitor, Radial, D16 x H35.5mm, 100µF, 450V; Manufacturer Part Number: 860241480001; Manufacturer: Wurth Elektronik; Capacitance Tolerance: +/-20%; Dissipation Factor: 17%; Endurance: 5000h; Leakage Current: 1900µA; Ripple Current: 610mA; Technical Reference: ATJK355101M450DSPADE000; Category: Aluminum Electrolytic Capacitors; Match Code: WCAP-AT1H; ComponentLink1Description: Website Link; ComponentLink1URL: https://www.we-online.com/redexpert/article/860241480001?ad; ComponentLink2Description: Datasheet Link; ComponentLink2URL: https://www.we-online.com/redexpert/spec/860241480001?ad; Mount: Through Hole; Min Operating Temperature: -25°C; Max Operating Temperature: 105°C; Packaging: Ammo Pack; Case/Size Code: D16 x H35.5mm; Height: 35.5mm; Diameter: 16mm; Capacitance: 100µF; Rated Voltage (DC): 450V
footprint WCAP-AT1H_D16H35.5
simulation model 860241480001_100uF
pins: 1 P, 2 N
text: +

## 860241480005
designator C?, comment 22µF
WCAP-AT1H Aluminum Electrolytic Capacitor, Radial, D16 x H21mm, 22µF, 450V; Manufacturer Part Number: 860241480005; Manufacturer: Wurth Elektronik; Capacitance Tolerance: +/-20%; Dissipation Factor: 20%; Endurance: 10000h; Leakage Current: 496µA; Ripple Current: 685mA; Technical Reference: ATJK210220M450DSPAEK000; Category: Aluminum Electrolytic Capacitors; Match Code: WCAP-AT1H; ComponentLink1Description: Website Link; ComponentLink1URL: https://www.we-online.com/redexpert/article/860241480005?ad; ComponentLink2Description: Datasheet Link; ComponentLink2URL: https://www.we-online.com/redexpert/spec/860241480005?ad; Mount: Through Hole; Min Operating Temperature: -25°C; Max Operating Temperature: 105°C; Packaging: Ammo Pack; Case/Size Code: D16 x H21mm; Height: 21mm; Diameter: 16mm; Capacitance: 22µF; Rated Voltage (DC): 450V
footprint WCAP-AT1H_D16H21
simulation model 860241480005_22uF
pins: 1 P, 2 N
text: +

## 860241481006
designator C?, comment 33µF
WCAP-AT1H Aluminum Electrolytic Capacitor, Radial, D18 x H21mm, 33µF, 450V; Manufacturer Part Number: 860241481006; Manufacturer: Wurth Elektronik; Capacitance Tolerance: +/-20%; Dissipation Factor: 20%; Endurance: 10000h; Leakage Current: 694µA; Ripple Current: 883mA; Technical Reference: ATJL210330M450DSPAEK000; Category: Aluminum Electrolytic Capacitors; Match Code: WCAP-AT1H; ComponentLink1Description: Website Link; ComponentLink1URL: https://www.we-online.com/redexpert/article/860241481006?ad; ComponentLink2Description: Datasheet Link; ComponentLink2URL: https://www.we-online.com/redexpert/spec/860241481006?ad; Mount: Through Hole; Min Operating Temperature: -25°C; Max Operating Temperature: 105°C; Packaging: Ammo Pack; Case/Size Code: D18 x H21mm; Height: 21mm; Diameter: 18mm; Capacitance: 33µF; Rated Voltage (DC): 450V
footprint WCAP-AT1H_D18H21
simulation model 860241481006_33uF
pins: 1 P, 2 N
text: +

## 860241481007
designator C?, comment 47µF
WCAP-AT1H Aluminum Electrolytic Capacitor, Radial, D18 x H31.5mm, 47µF, 450V; Manufacturer Part Number: 860241481007; Manufacturer: Wurth Elektronik; Capacitance Tolerance: +/-20%; Dissipation Factor: 20%; Endurance: 10000h; Leakage Current: 946µA; Ripple Current: 1120mA; Technical Reference: ATJL315470M450DSPAEK000; Category: Aluminum Electrolytic Capacitors; Match Code: WCAP-AT1H; ComponentLink1Description: Website Link; ComponentLink1URL: https://www.we-online.com/redexpert/article/860241481007?ad; ComponentLink2Description: Datasheet Link; ComponentLink2URL: https://www.we-online.com/redexpert/spec/860241481007?ad; Mount: Through Hole; Min Operating Temperature: -25°C; Max Operating Temperature: 105°C; Packaging: Ammo Pack; Case/Size Code: D18 x H31.5mm; Height: 31.5mm; Diameter: 18mm; Capacitance: 47µF; Rated Voltage (DC): 450V
footprint WCAP-AT1H_D18H31.5
simulation model 860241481007_47uF
pins: 1 P, 2 N
text: +